# Altium schematic symbol library SJ-3523-SMT-TR.SchLib: 1 symbol
Pins are listed as number, name and electrical type; pins without a type are passive.

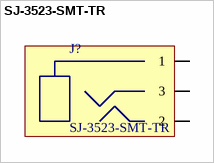
[diagram p0: symbol SJ-3523-SMT-TR]

## SJ-3523-SMT-TR
designator J?
CONN JACK STEREO 3.5MM; Value: *
footprint CUI_SJ-3523-SMT-TR (CONN JACK STEREO 3.5MM)
pins: 1, 2, 3